# EAGLE library part BATTERY-CHARGER-BQ2407X (library FlashPCB_ICs)
BQ2407x - IC BATT CHG LI-ION 1CELL 16QFN Technical Specifications: Charger IC Lithium Ion 16-VQFN (3x3) Fully compliant USB Charger Battery Pack Voltage: 4.2V Pin15 depends on model: System output tracks battery voltage (BQ24072) Programmable termination current (BQ24074) Battery disconnect function with SYSOFF input (BQ24075, BQ24079) Component Search: BQ2407x <[FLASHPCB URL]> Datasheet: BQ2407x Standalone 1-Cell 1.5-A Linear Battery Charger with PowerPath datasheet (Rev. N) <https://www.ti.com/lit/ds/symlink/bq24074.pdf?HQS=dis-dk-null-digikeymode-dsf-pf-null-wwe&ts=1681869526777&ref_url=https%253A%252F%252Fwww.ti.com%252Fgeneral%252Fdocs%252Fsuppproductinfo.tsp%253FdistId%253D10%2526gotoUrl%253Dhttps%253A%252F%252Fwww.ti.com%252Flit%252Fgpn%252Fbq24074>
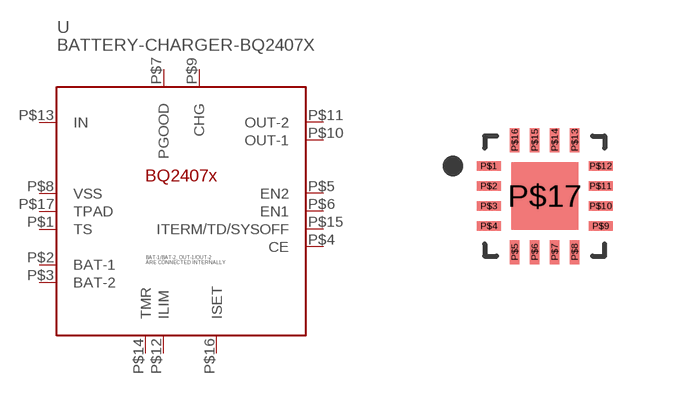
[diagram p24: symbol with the pads of 16-VQFN(3X3)-EXPOSED-PAD; footprint 16-VQFN(3X3)-EXPOSED-PAD]

Designator prefix U

## BATTERY-CHARGER-BQ2407XRGT  [16-VQFN(3X3)-EXPOSED-PAD]
P$1  TS
P$2  BAT-1
P$3  BAT-2
P$4  CE
P$5  EN2
P$6  EN1
P$7  PGOOD
P$8  VSS
P$9  CHG
P$10  OUT-1
P$11  OUT-2
P$12  ILIM
P$13  IN
P$14  TMR
P$15  ITERM/TD/SYSOFF
P$16  ISET
P$17  TPAD

## Footprint 16-VQFN(3X3)-EXPOSED-PAD (pad centres in mm)
smd 0.6 x 0.24: P$1 -1.4,0.75; P$2 -1.4,0.25; P$3 -1.4,-0.25; P$4 -1.4,-0.75; P$9 1.4,-0.75; P$10 1.4,-0.25; P$11 1.4,0.25; P$12 1.4,0.75
smd 0.24 x 0.6: P$5 -0.75,-1.4; P$6 -0.25,-1.4; P$7 0.25,-1.4; P$8 0.75,-1.4; P$13 0.75,1.4; P$14 0.25,1.4; P$15 -0.25,1.4; P$16 -0.75,1.4
smd 1.68 x 1.68: P$17 0,0